# EAGLE library part LM25145 (library lib_ysk)
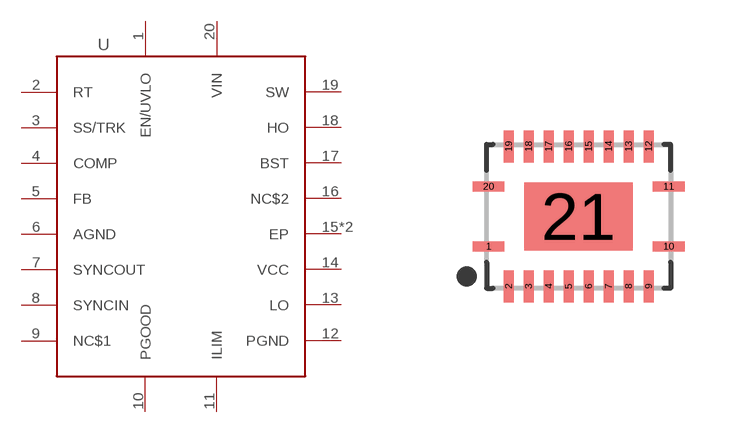
[diagram p7: symbol with the pads of RGY0020B; footprint RGY0020B]

Designator prefix U

## LM25145RGY  [RGY0020B]
1  EN/UVLO
2  RT
3  SS/TRK
4  COMP
5  FB
6  AGND
7  SYNCOUT
8  SYNCIN
9  NC$1  nc
10  PGOOD
11  ILIM
12  PGND
13  LO
14  VCC
15  EP
16  NC$2  nc
17  BST
18  HO
19  SW
20  VIN
21  EP

## Footprint RGY0020B (pad centres in mm)
20-QFN, 0.50 mm pitch, 3.50 X 4.50 X 1.00 mm body, 1.70 X 2.70 mm thermal pad 20-pin QFN package with 0.50 mm pitch with body size 3.50 X 4.50 X 1.00 mm and thermal pad size 1.70 X 2.70 mm
smd 0.8 x 0.25: 1 -2.25,-0.75; 10 2.25,-0.75; 11 2.25,0.75; 20 -2.25,0.75
smd 0.25 x 0.8: 2 -1.75,-1.75; 3 -1.25,-1.75; 4 -0.75,-1.75; 5 -0.25,-1.75; 6 0.25,-1.75; 7 0.75,-1.75; 8 1.25,-1.75; 9 1.75,-1.75; 12 1.75,1.75; 13 1.25,1.75; 14 0.75,1.75; 15 0.25,1.75; 16 -0.25,1.75; 17 -0.75,1.75; 18 -1.25,1.75; 19 -1.75,1.75
smd 2.7 x 1.7: 21 0,0